# Altium footprint library CAP_ELEC_6.3x4.2.PcbLib: 1 footprints
Each footprint in its own frame and in the unit in brackets; x right, y up, seen from the top. Pads: shape width x height; smd on the part's side, far side on the other; paste and mask are expansions set on the pad; w line width, h text height; cw(c..) or ccw(c..) is an arc to the next point about the centre after c.
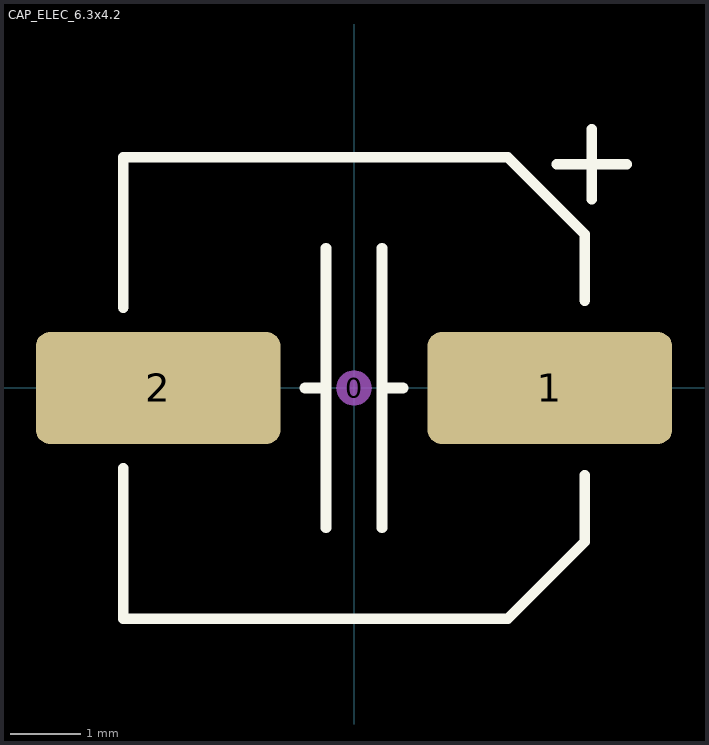
[diagram p0: the footprint, top view; thin cyan lines are the x and y axes]

## CAP_ELEC_6.3x4.2 [mm] "Capacitor, polarized, aluminum can; 6.3x4.2mm DxH"
height 4.2
pads (3):
  round 0.508 on Mech15: 0(0,0)
  rrect25% 3.5x1.6 smd: 1(2.8,0) 2(-2.8,0)
Top Overlay:
  lines w0.152: -3.3,-1.15 -3.3,-3.3 2.2,-3.3 3.3,-2.2 3.3,-1.25 ; -3.3,1.15 -3.3,3.3 2.2,3.3 3.3,2.2 3.3,1.25 ; -0.7,0 -0.5,0 ; -0.4,-2 -0.4,2 ; 0.4,-2 0.4,2 ; 0.5,0 0.7,0 ; 2.9,3.2 3.4,3.2 3.9,3.2 ; 3.4,2.7 3.4,3.7
3D body "Cap, elec, 6.3x4.2.STEP": height 4.23, standoff 0, extent -3.3,-3.3 3.3,3.3